# Altium footprint library 28Pins_Project_V1I1.PcbLib: 26 footprints (part 1 of 2)
Each footprint in its own frame and in the unit in brackets; x right, y up, seen from the top. Pads: shape width x height; smd on the part's side, far side on the other; paste and mask are expansions set on the pad; w line width, h text height; cw(c..) or ccw(c..) is an arc to the next point about the centre after c.
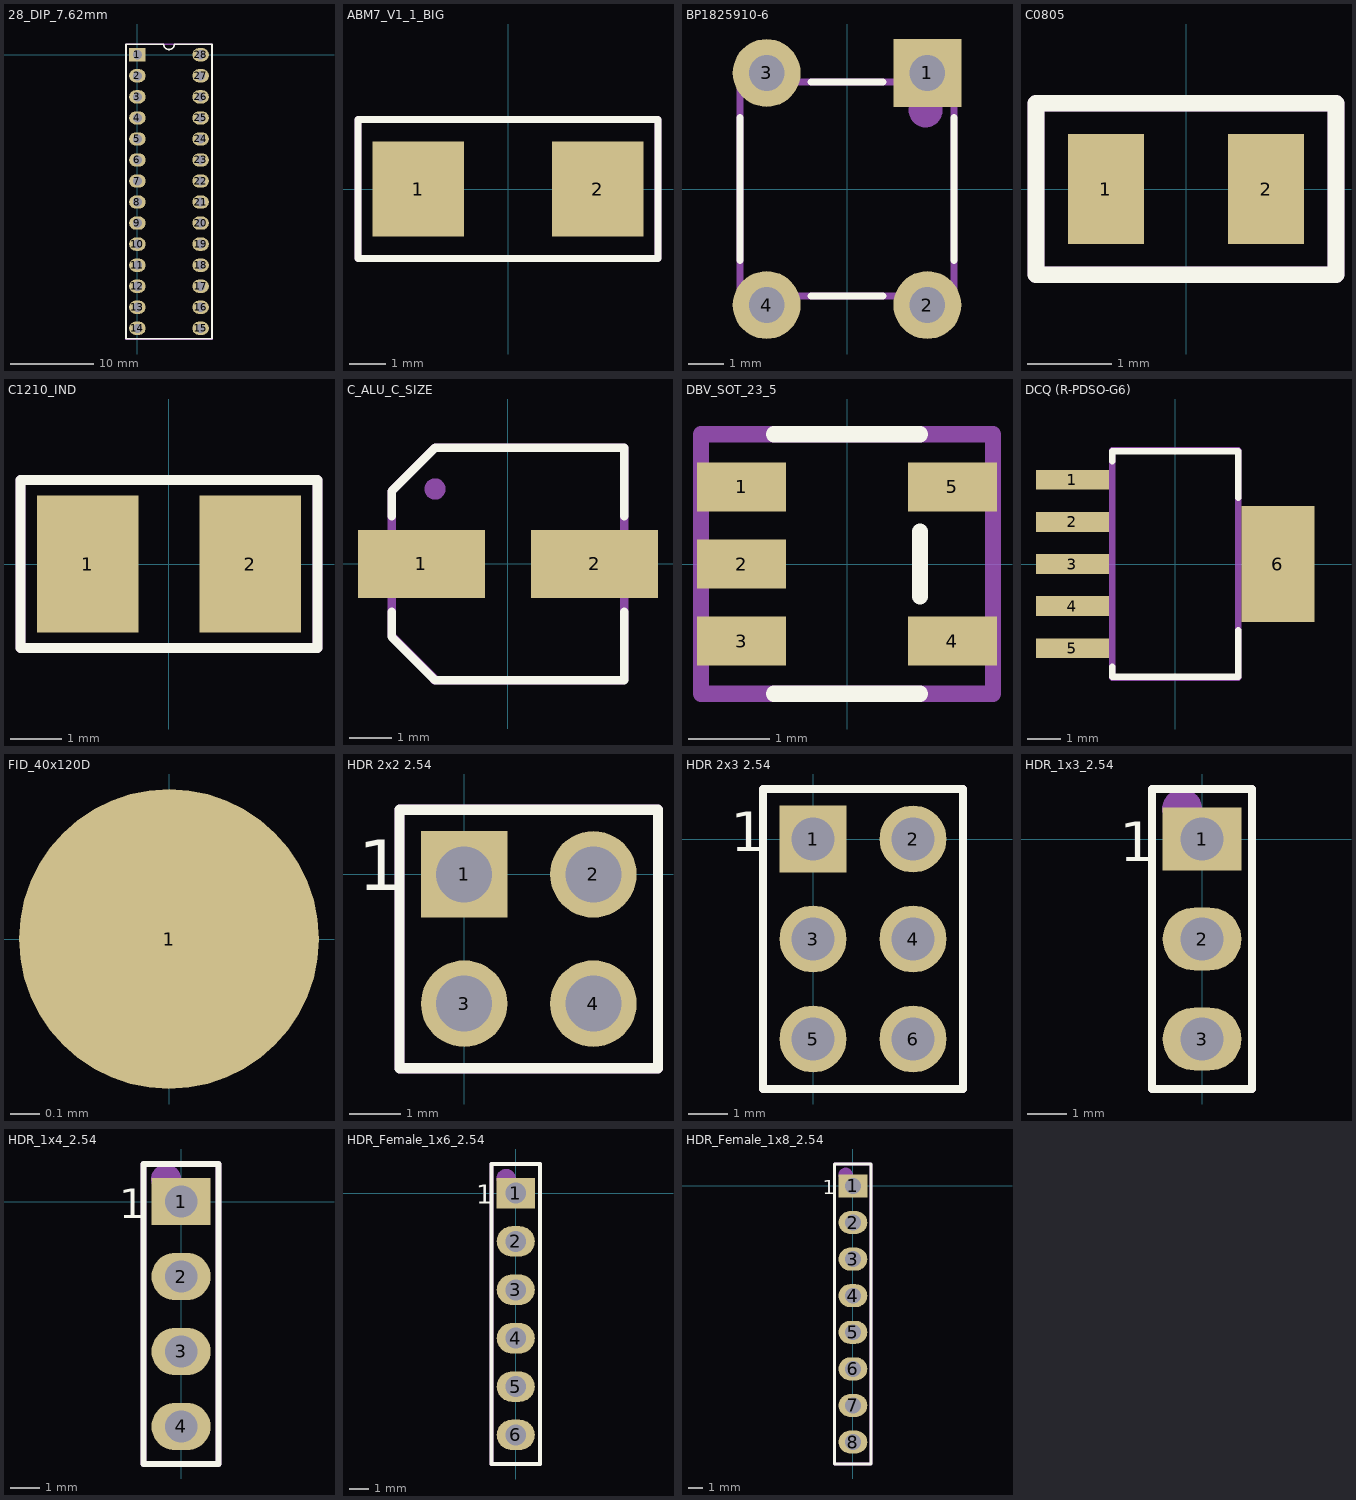
[diagram p0: the footprints below, top view; thin cyan lines are the x and y axes]

## 28_DIP_7.62mm [mm]
pads (28):
  rect 2x1.6 hole 1.1: 1(0,0)
  oval 2x1.6 hole 1.1: 2(0,-2.54) 3(0,-5.08) 4(0,-7.62) 5(0,-10.16) 6(0,-12.7) 7(0,-15.24) 8(0,-17.78) 9(0,-20.32) 10(0,-22.86) 11(0,-25.4) 12(0,-27.94) 13(0,-30.48) 14(0,-33.02) 15(7.62,-33.02) 16(7.62,-30.48) 17(7.62,-27.94) 18(7.62,-25.4) 19(7.62,-22.86) 20(7.62,-20.32) 21(7.62,-17.78) 22(7.62,-15.24) 23(7.62,-12.7) 24(7.62,-10.16) 25(7.62,-7.62) 26(7.62,-5.08) 27(7.62,-2.54) 28(7.62,0)
Top Overlay:
  lines w0.2: -1.39,-34.29 9.01,-34.29 9.01,1.27 4.445,1.27 cw(c3.81,1.27) 3.175,1.27 -1.39,1.27 -1.39,-34.29
ASM Top:
  circle w0.5: c0.01,-0.01 r0.25
  lines w0.2: -1.39,-34.31 9.01,-34.31 9.01,1.29 -1.39,1.29 -1.39,-34.31
  text ".Designator" at 5.3,-22.2 h3
3D body "User Library-28 pin dip.step": height 7.55, standoff 1.33, extent -0.164,-34.48 7.71,1.461

## 28_DIP_7.62MM_SOCKET [mm]
3D body "dil_socket.stp": height 4.2, standoff -3.17, extent -5.05,-17.242 5.05,18.258

## ABM7_V1_1_BIG [mm]
pads (2):
  rect 2.5x2.6 smd: 1(-2.45,0) 2(2.45,0)
Top Overlay:
  lines w0.2: -4.1,-1.9 -4.1,1.9 4.1,1.9 4.1,-1.9 -4.1,-1.9
ASM Top:
  lines w0.2: -4.1,-1.9 4.1,-1.9 4.1,1.9 -4.1,1.9 -4.1,-1.9
  text ".Designator" at -1.8,-0.267 h1
3D body "ABM7.STEP": height 1.41, standoff 0.01, extent -2.997,-1.753 2.997,1.753
3D body: height 1.45, standoff 1.4, extent -1.6,-1 1.6,1

## BP1825910-6 [mm]
pads (4):
  rect 1.9x1.9 hole 1: 1(2.25,3.25)
  round 1.9 hole 1: 2(2.25,-3.25) 3(-2.25,3.25) 4(-2.25,-3.25)
Top Overlay:
  lines w0.2: -3,-2 -3,2 ; -1,-3 1,-3 ; -1,3 1,3 ; 3,-2 3,2
ASM Top:
  circle w0.5: c2.2,2.2 r0.224
  lines w0.2: -3,-3 -3,3 3,3 3,-3 -3,-3
  text ".Designator" at -1.7,-0.267 h1
3D body "BP-FSM4JLH(1825910-5).step": height 5, standoff -3.51, extent -2.995,-3.898 2.995,3.9

## C0805 [mm]
pads (2):
  rect 0.9x1.3 smd: 1(-0.95,0) 2(0.95,0)
Top Overlay:
  lines w0.2: -1.778,-1.016 -1.778,1.016 1.778,1.016 1.778,-1.016 -1.778,-1.016
ASM Top:
  lines w0.2: -1.778,-1.016 1.778,-1.016 1.778,1.016 -1.778,1.016 -1.778,-1.016
  text ".Designator" at -0.916,-0.208 h0.6
3D body "CAPC2012X94N EIA 0805.step": height 0.95, standoff 0.01, extent -1,-0.6 1,0.6

## C1210_IND [mm]
pads (2):
  rect 2x2.7 smd: 1(-1.6,0) 2(1.6,0)
Top Overlay:
  lines w0.2: -2.921,-1.651 -2.921,1.651 2.921,1.651 2.921,-1.651 -2.921,-1.651
ASM Top:
  lines w0.2: -2.921,-1.651 -2.921,1.651 2.921,1.651 2.921,-1.651 -2.921,-1.651
  text ".Designator" at -1.882,-0.406 h1
3D body: height 2.7, standoff -0.01, extent -1.6,-1.25 -1,1.25
3D body: height 2.7, standoff -0.01, extent 1,-1.25 1.6,1.25
3D body: height 2.7, standoff -0.01, extent -1,-1.25 1,1.25

## C_ALU_C_SIZE [mm]
pads (2):
  rect 3x1.6 smd: 1(-2.05,0) 2(2.05,0)
Top Overlay:
  lines w0.2: -2.75,-1.125 -2.75,-1.725 -1.725,-2.75 2.75,-2.75 2.75,-1.125 ; -2.75,1.125 -2.75,1.725 -1.725,2.75 2.75,2.75 2.75,1.125
ASM Top:
  circle w0.3: c-1.725,1.775 r0.1
  lines w0.2: 2.725,-2.75 -1.75,-2.75 -1.75,-2.7 -2.75,-1.7 -2.75,1.725 -1.725,2.75 2.75,2.75 2.75,-2.725
  text ".Designator" at -1.825,-0.342 h1
3D body "capacitor size C.step": height 5.41, standoff -0.01, extent -2.95,-2.65 2.95,2.65

## DBV_SOT_23_5 [mm]
pads (5):
  rect 1.1x0.6 smd: 1(-1.3,0.95) 2(-1.3,0) 3(-1.3,-0.95) 4(1.3,-0.95) 5(1.3,0.95)
Top Overlay:
  lines w0.2: -0.9,-1.6 0.9,-1.6 ; -0.9,1.6 0.9,1.6 ; 0.9,-0.4 0.9,0.4
ASM Top:
  circle w0.254: c-1.3,1 r0.1
  lines w0.2: -1.8,-1.6 -1.8,1.6 1.8,1.6 1.8,-1.6 -1.8,-1.6
  text ".Designator" at -1,-0.2 h0.6
3D body "DBV.step": height 1.42, standoff -0.03, extent -1.5,-1.525 1.5,1.525

## DCQ (R-PDSO-G6) [mm]
pads (6):
  rect 2.2x0.6 smd: 1(-3.1,2.54) 2(-3.1,1.27) 3(-3.1,0) 4(-3.1,-1.27) 5(-3.1,-2.54)
  rect 2.2x3.5 smd: 6(3.1,0)
Top Overlay:
  lines w0.2: -1.9,-3.1 -1.9,-3.4 1.9,-3.4 1.9,-2 ; -1.9,3.1 -1.9,3.4 1.9,3.4 1.9,2
ASM Top:
  lines w0.2: 1.905,2.032 1.905,3.429 ; 1.905,3.429 1.905,-3.429 -1.905,-3.429 -1.905,3.429 1.905,3.429
  text ".Designator" at -1.451,-0.356 h1
3D body "Regulator_TPS73701DCQ.step": height 1.81, standoff 0.01, extent -3.63,-3.275 3.63,3.275

## FID_40x120D [mil]
pads (1):
  round 40 smd paste-40 mask+40: 1(0,0)

## HDR 2x2 2.54 [mm]
pads (4):
  rect 1.7x1.7 hole 1.1: 1(0,0)
  round 1.7 hole 1.1: 2(2.54,0) 3(0,-2.54) 4(2.54,-2.54)
Top Overlay:
  lines w0.2: -1.27,-3.81 -1.27,1.27 3.81,1.27 3.81,-3.81 -1.27,-3.81
  text "1" at -2.086,-0.308 h1
ASM Top:
  circle w0.635: c-0.254,0.254 r0.254
  lines w0.2: -1.27,-3.81 3.81,-3.81 3.81,1.27 -1.27,1.27 -1.27,-3.81
  text ".Designator" at 1.736,-3.429 h1.27
3D body "961204-6404-XX.stp": height 8.01, standoff -3.29, extent -1.27,-3.77 3.81,1.23

## HDR 2x3 2.54 [mm]
pads (6):
  rect 1.7x1.7 hole 1.1: 1(0,0)
  round 1.7 hole 1.1: 2(2.54,0) 3(0,-2.54) 4(2.54,-2.54) 5(0,-5.08) 6(2.54,-5.08)
Top Overlay:
  lines w0.2: -1.27,-6.35 3.81,-6.35 3.81,1.27 -1.27,1.27 -1.27,-6.35
  text "1" at -2.086,-0.308 h1
ASM Top:
  circle w0.635: c-0.254,0.254 r0.254
  lines w0.2: -1.27,-6.35 -1.27,1.27 3.81,1.27 3.81,-6.35 -1.27,-6.35
  text ".Designator" at 1.736,-4.953 h1.27
3D body "961206-6404-XX.stp": height 8.01, standoff -3.29, extent -1.23,-6.35 3.77,1.27

## HDR_1x3_2.54 [mm]
pads (3):
  rect 2x1.6 hole 1.1: 1(0,0)
  oval 2x1.6 hole 1.1: 2(0,-2.54) 3(0,-5.08)
Top Overlay:
  lines w0.2: -1.27,-6.35 -1.27,1.27 1.27,1.27 1.27,-6.35 -1.27,-6.35
  text "1" at -2.086,-0.562 h1
ASM Top:
  circle w0.508: c-0.508,0.762 r0.254
  lines w0.2: -1.27,-6.35 1.27,-6.35 1.27,1.27 -1.27,1.27 -1.27,-6.35
  text ".Designator" at 0.423,-4.826 h1.02
3D body "HDR_1x3_White.stp": height 8.39, standoff -3.11, extent -1.245,-6.125 1.165,1.095

## HDR_1x4_2.54 [mm]
pads (4):
  rect 2x1.6 hole 1.1: 1(0,0)
  oval 2x1.6 hole 1.1: 2(0,-2.54) 3(0,-5.08) 4(0,-7.62)
Top Overlay:
  lines w0.2: -1.27,-8.89 -1.27,1.27 1.27,1.27 1.27,-8.89 -1.27,-8.89
  text "1" at -2.086,-0.562 h1
ASM Top:
  circle w0.508: c-0.508,0.762 r0.254
  lines w0.2: -1.27,-8.89 1.27,-8.89 1.27,1.27 -1.27,1.27 -1.27,-8.89
  text ".Designator" at 0.423,-5.842 h1.02
3D body "HDR_1x4_White.stp": height 8.39, standoff -3.11, extent -1.27,-8.69 1.14,1.07

## HDR_Female_1x6_2.54 [mm]
pads (6):
  rect 2x1.6 hole 1.1: 1(0,0)
  oval 2x1.6 hole 1.1: 2(0,-2.54) 3(0,-5.08) 4(0,-7.62) 5(0,-10.16) 6(0,-12.7)
Top Overlay:
  lines w0.2: -1.27,-14.224 -1.27,1.524 1.27,1.524 1.27,-14.224 -1.27,-14.224
  text "1" at -2.086,-0.562 h1
ASM Top:
  circle w0.508: c-0.508,0.762 r0.254
  lines w0.2: -1.27,-14.224 1.27,-14.224 1.27,1.524 -1.27,1.524 -1.27,-14.224
  text ".Designator" at 0.423,-9.144 h1.02
3D body "m20-7820646_asm.stp": height 8.51, standoff -2.99, extent -1.25,-14.17 1.25,1.47

## HDR_Female_1x8_2.54 [mm]
pads (8):
  rect 2x1.6 hole 1.1: 1(0,0)
  oval 2x1.6 hole 1.1: 2(0,-2.54) 3(0,-5.08) 4(0,-7.62) 5(0,-10.16) 6(0,-12.7) 7(0,-15.24) 8(0,-17.78)
Top Overlay:
  lines w0.2: -1.27,-19.304 1.27,-19.304 1.27,1.524 -1.27,1.524 -1.27,-19.304
  text "1" at -2.086,-0.562 h1
ASM Top:
  circle w0.508: c-0.508,0.762 r0.254
  lines w0.2: -1.27,-19.304 1.27,-19.304 1.27,1.524 -1.27,1.524 -1.27,-19.304
  text ".Designator" at 0.423,-13.97 h1.02
3D body "m20-7820842_asm.stp": height 8.51, standoff -2.99, extent -1.27,-19.25 1.23,1.47